# Altium integrated library Analog_IC.IntLib: 16 symbols
Pins are listed as number, name and electrical type; pins without a type are passive.

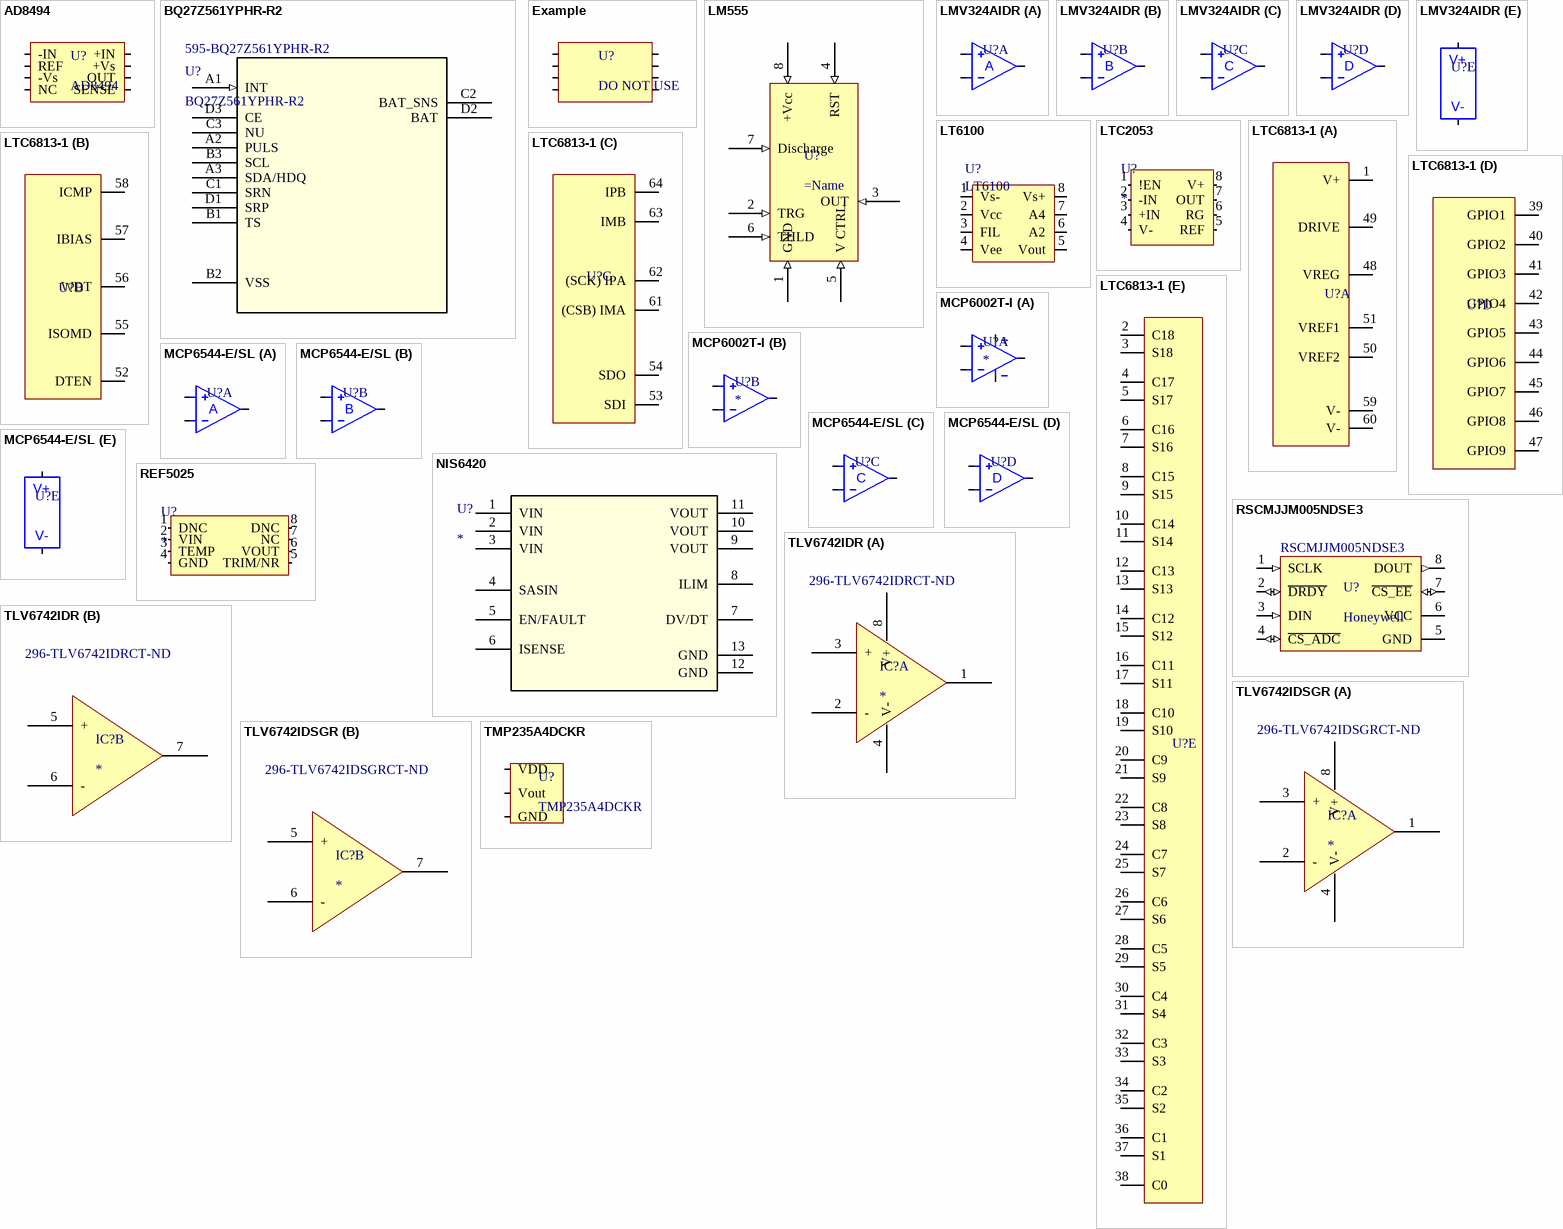
[diagram p0: symbols AD8494 to TMP235A4DCKR]

## AD8494
designator U?
Num_Circuits: 1; Voltage: 15; Link: https://www.digikey.com/product-detail/en/analog-devices-inc/AD8497ARMZ/AD8497ARMZ-ND/2404367; Name: AD8494
footprint MSOP-8 (MSOP, 8-Leads, Body 3.00x3.00mmPitch 0.65mm, IPC MSOP65P490X110-8N, Medium Density, LTC2053, AD8495, LT6100HMS8PBF)
pins: 1 -IN (in), 2 REF (in), 3 -Vs (power), 4 NC, 5 SENSE (in), 6 OUT (out), 7 +Vs (power), 8 +IN (in)

## BQ27Z561YPHR-R2
designator U?  Supplier Part Number 1: 595-BQ27Z561YPHR-R2
Impedance track battery gas gauge solution for 1-series cell li-ion battery packs 12-DSBGA -40 to 85; Mfr_Name: Texas Instruments; Copyright: Copyright (C) 2022 Ultra Librarian. All rights reserved.; Manufacturer_Part_Number: BQ27Z561YPHR-R2; RefDes: RefDes; Type: DEV; Supplier 1: Mouser; Manufacturer: Texas Instruments; Manufacturer Part Number: BQ27Z561YPHR-R2; RoHS: Yes; Category: Battery Management; Stock 1: 21652; Pricing 1: 1=3.03000, 10=2.73000, 50=2.57000, 100=2.19000, 1000=1.50000, 10000=1.49000 (USD)
footprint DSBGA_YPHR-R2_TEX
pins: A1 INT (in), A2 PULS, A3 SDA/HDQ, B1 TS, B2 VSS, B3 SCL, C1 SRN, C2 BAT_SNS, C3 NU, D1 SRP, D2 BAT, D3 CE

## Example
designator U?, comment DO NOT USE
Num_Circuits: *; Voltage: *; Link: *
footprint SOIC-8 (SOIC, 8-Leads, Body 4.90x3.90mm, Pitch 1.27mm, IPC Medium Density)
pins: 1, 2, 3, 4, 5, 6, 7, 8

## LM555
designator U?
Generic 555 timer IC; ComponentLink1Description: Digikey; ComponentLink1URL: https://www.digikey.com/en/products/detail/texas-instruments/NA555DR/1571933
footprint SOIC-8 (SOIC, 8-Leads, Body 4.90x3.90mm, Pitch 1.27mm, IPC Medium Density)
pins: 1 GND (in), 2 TRG (in), 3 OUT (in), 4 RST (in), 5 V CTRL (in), 6 THLD (in), 7 Discharge (in), 8 +Vcc (in)

## LMV324AIDR
designator U?
General Purpose Amplifier 4 Circuit Rail-to-Rail 14-SOIC; ComponentLink1Description: Datasheet; ComponentLink1URL: https://www.ti.com/lit/ds/symlink/lmv324a.pdf?HQS=TI-null-null-digikeymode-df-pf-null-wwe&ts=1593641900456; ComponentLink2Description: Digikey; ComponentLink2URL: https://www.digikey.com/product-detail/en/texas-instruments/LMV324AIDR/296-51365-1-ND/9745729
footprint SOIC-14 (SOIC, 14-Leads, Body 8.65x3.90mm, Pitch 1.27mm, IPC Medium Density)
part A pins: 1 OUT_A, 2 -IN_A, 3 +IN_A
part B pins: 5 +IN_B, 6 -IN_B, 7 OUT_B
part C pins: 8 OUT_C, 9 -IN_C, 10 +IN_C
part D pins: 12 +IN_D, 13 -IN_D, 14 OUT_D
part E pins: 4 V+, 11 V-
part A text: A
part B text: B
part C text: C
part D text: D

## LT6100
designator U?
High Side Current Sense Amp; Name: LT6100; ComponentLink1Description: Datasheet; ComponentLink1URL: https://www.analog.com/media/en/technical-documentation/data-sheets/6100fd.pdf; ComponentLink2Description: Digikey; ComponentLink2URL: https://www.digikey.com/product-detail/en/linear-technology-analog-devices/LT6100CMS8-TRPBF/LT6100CMS8-TRPBFCT-ND/7917234
footprint MSOP-8 (MSOP, 8-Leads, Body 3.00x3.00mmPitch 0.65mm, IPC MSOP65P490X110-8N, Medium Density, LTC2053, AD8495, LT6100HMS8PBF)
pins: 1 Vs-, 2 Vcc, 3 FIL, 4 Vee, 5 Vout, 6 A2, 7 A4, 8 Vs+

## LTC2053
designator U?
Instrumentation Amplifier; ComponentLink1Description: Datasheet; ComponentLink1URL: https://www.analog.com/media/en/technical-documentation/data-sheets/2053syncfd.pdf
footprint MSOP-8 (MSOP, 8-Leads, Body 3.00x3.00mmPitch 0.65mm, IPC MSOP65P490X110-8N, Medium Density, LTC2053, AD8495, LT6100HMS8PBF)
pins: 1 !EN (in), 2 -IN (in), 3 +IN (in), 4 V- (in), 5 REF (in), 6 RG (in), 7 OUT (in), 8 V+ (in)

## LTC6813-1
designator U?  (value not drawn)
footprint LQFP 10mm x 10mm w/ 5.75mm thermal pad
part A pins: 1 V+, 48 VREG, 49 DRIVE, 50 VREF2, 51 VREF1, 59 V-, 60 V-
part B pins: 52 DTEN, 55 ISOMD, 56 WDT, 57 IBIAS, 58 ICMP
part C pins: 53 SDI, 54 SDO, 61 (CSB) IMA, 62 (SCK) IPA, 63 IMB, 64 IPB
part D pins: 39 GPIO1, 40 GPIO2, 41 GPIO3, 42 GPIO4, 43 GPIO5, 44 GPIO6, 45 GPIO7, 46 GPIO8, 47 GPIO9
part E pins: 2 C18, 3 S18, 4 C17, 5 S17, 6 C16, 7 S16, 8 C15, 9 S15, 10 C14, 11 S14, 12 C13, 13 S13, 14 C12, 15 S12, 16 C11, 17 S11, 18 C10, 19 S10, 20 C9, 21 S9, 22 C8, 23 S8, 24 C7, 25 S7, 26 C6, 27 S6, 28 C5, 29 S5, 30 C4, 31 S4, 32 C3, 33 S3, 34 C2, 35 S2, 36 C1, 37 S1, 38 C0

## MCP6002T-I
designator U?
Num_Circuits: 2; Voltage: 6; Link: https://www.digikey.com/product-detail/en/microchip-technology/MCP6002T-I-SN/MCP6002T-I-SNCT-ND/4307905
footprint SOIC-8 (SOIC, 8-Leads, Body 4.90x3.90mm, Pitch 1.27mm, IPC Medium Density)
part A pins: 1 OUT_A, 2 -IN_A, 3 +IN_A, 4 V-, 8 V+
part B pins: 5 +IN_B, 6 -IN_B, 7 OUT_B

## MCP6544-E/SL
designator U?
Comparator General Purpose CMOS, Push-Pull, Rail-to-Rail, TTL 14-SOIC; ComponentLink1Description: Datasheet; ComponentLink1URL: https://ww1.microchip.com/downloads/en/DeviceDoc/MCP6541%20Output%20SubMicroamp%20Comparators%2020001696K.pdf; ComponentLink2Description: Digikey; ComponentLink2URL: https://www.digikey.com/en/products/detail/microchip-technology/MCP6544-E-SL/870260
footprint SOIC-14 (SOIC, 14-Leads, Body 8.65x3.90mm, Pitch 1.27mm, IPC Medium Density)
part A pins: 1 OUT_A, 2 -IN_A, 3 +IN_A
part B pins: 5 +IN_B, 6 -IN_B, 7 OUT_B
part C pins: 8 OUT_C, 9 -IN_C, 10 +IN_C
part D pins: 12 +IN_D, 13 -IN_D, 14 OUT_D
part E pins: 4 V+, 11 V-
part A text: A
part B text: B
part C text: C
part D text: D

## NIS6420
designator U?
Electronic Fuse Regulator
footprint WQFN-12
pins: 1 VIN (power), 2 VIN (power), 3 VIN (power), 4 SASIN, 5 EN/FAULT, 6 ISENSE, 7 DV/DT, 8 ILIM, 9 VOUT, 10 VOUT, 11 VOUT, 12 GND, 13 GND

## REF5025
designator U?
2.5 V Series Voltage Reference IC ±0.1% 10mA 8-SOIC; ComponentLink1Description: Datasheet; ComponentLink1URL: https://www.ti.com/lit/ds/symlink/ref5025.pdf?ts=1593902085498&ref_url=https%253A%252F%252Fwww.ti.com%252Fstore%252Fti%252Fen%252Fp%252Fproduct%252F%253Fp%253DREF5025AIDR
footprint SOIC-8 (SOIC, 8-Leads, Body 4.90x3.90mm, Pitch 1.27mm, IPC Medium Density)
pins: 1 DNC, 2 VIN (power), 3 TEMP (out), 4 GND (power), 5 TRIM/NR (in), 6 VOUT (power), 7 NC, 8 DNC

## RSCMJJM005NDSE3
designator U?, comment Honeywell  Supplier Part Number 1: RSCMJJM005NDSE3
SENSOR PRESS DIFF 5" H2OF 3.3V S; Accuracy: 0.1%; Port Style: Barbless; Nominal Supply Current: 1.7mA; Supplier 1: Arrow; Manufacturer: Honeywell; Manufacturer Part Number: RSCMJJM005NDSE3; RoHS: No; Category: Pressure Sensors; Stock 1: 262; Pricing 1: 1=54.40000, 2=53.35000, 5=51.72000, 10=49.07000, 25=48.80000 (USD); Case/Package: SMD/SMT; Min Operating Temperature: -40°C; Max Operating Temperature: 85°C; ComponentLink1URL: https://sensing.honeywell.com/honeywell-sensing-board-mount-pressure-sensors-line-guide-008152-18-en.pdf?src-supplier=Digi-Key; ComponentLink1Description: https://sensing.honeywell.com/honeywell-sensing-board-mount-pressure-sensors-line-guide-008152-18-en.pdf?src-supplier=Digi-Key
footprint RSCMJJM005NDSE3
pins: 1 SCLK (in), 2 ~{DRDY} (io), 3 DIN (in), 4 ~{CS_ADC} (io), 5 GND (power), 6 VCC (power), 7 ~{CS_EE} (io), 8 DOUT (out)

## TLV6742IDR
designator IC?  Supplier Part Number 1: 296-TLV6742IDRCT-ND
Dual, 10-MHz, low noise, low-power, RRO, operational amplifier 8-SOIC -40 to 125; Manufacturer: Texas Instruments; Manufacturer Part Number: TLV6742IDR; Supplier 1: Digi-Key; RoHS: Yes; Category: Amplifiers - Op Amps, Buffer, Instrumentation; Stock 1: 2500; Pricing 1: 1=1.15000, 10=1.03200, 25=0.97960, 100=0.80450, 250=0.75208, 500=0.66462, 1000=0.52800 (USD)
footprint SOIC-8 (SOIC, 8-Leads, Body 4.90x3.90mm, Pitch 1.27mm, IPC Medium Density)
part A pins: 1 OUTA, 2 -, 3 +, 4 V-, 8 V+
part B pins: 5 +, 6 -, 7 OUTB

## TLV6742IDSGR
designator IC?  Supplier Part Number 1: 296-TLV6742IDSGRCT-ND
Dual, 10-MHz, low noise, low-power, RRO, operational amplifier 8-WSON -40 to 125; Manufacturer: Texas Instruments; Manufacturer Part Number: TLV6742IDSGR; Supplier 1: Digi-Key; RoHS: Yes; Category: Amplifiers - Op Amps, Buffer, Instrumentation; Stock 1: 35538; Pricing 1: 1=1.44000, 10=1.29100, 25=1.22560, 100=1.00690, 250=0.94124, 500=0.83178, 1000=0.66080 (USD)
footprint WSON-8 (PSON, 8-Leads, Body 2.00x2.00mm, Pitch 0.50mm, Thermal Pad 1.60x0.90mm, IPC Medium Density)
part A pins: 1 OUTA, 2 -, 3 +, 4 V-, 8 V+
part B pins: 5 +, 6 -, 7 OUTB

## TMP235A4DCKR
designator U?
Temperature Sensor Analog, Local -40°C ~ 150°C 10mV/°C SOT-23-3; ComponentLink1Description: Digikey; ComponentLink1URL: https://www.digikey.com/en/products/detail/texas-instruments/TMP235A4DBZR/9649794
footprint SOT23-3 (SOT23, 3-Leads, Body 2.92x2.37mm, Pitch 0.95mm, IPC Medium Density, NUP2105L)
pins: 1 VDD, 2 Vout, 3 GND